# Altium schematic symbol library TPS61088RHLR.SchLib: 2 symbols
Pins are listed as number, name and electrical type; pins without a type are passive.

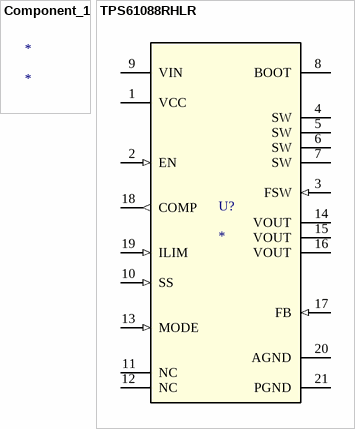
[diagram p0: symbols Component_1 to TPS61088RHLR]

## Component_1
designator *

## TPS61088RHLR
designator U?
No Description Available; PartNumber: TPS61088RHLR; Alternate_PartNumber: TPS61088RHLT; Manufacturer: Texas Instruments; CompType: IC; PIN_COUNT: 21; Application_BuildNumber: *; PackageReference: RHL0020A; MountType: SMT; RoHS: Y; RefDes: RefDes; Type: DEV; Value: Value; Copyright: Copyright (C) 2018 Accelerated Designs. All rights reserved
footprint RHL0020A
pins: 1 VCC (power), 2 EN (in), 3 FSW (in), 4 SW (power), 5 SW (power), 6 SW (power), 7 SW (power), 8 BOOT (power), 9 VIN (power), 10 SS (in), 11 NC, 12 NC, 13 MODE (in), 14 VOUT (power), 15 VOUT (power), 16 VOUT (power), 17 FB (in), 18 COMP (out), 19 ILIM (in), 20 AGND (power), 21 PGND (power)